# Altium schematic symbol library LCD.SchLib: 5 symbols
Pins are listed as number, name and electrical type; pins without a type are passive.

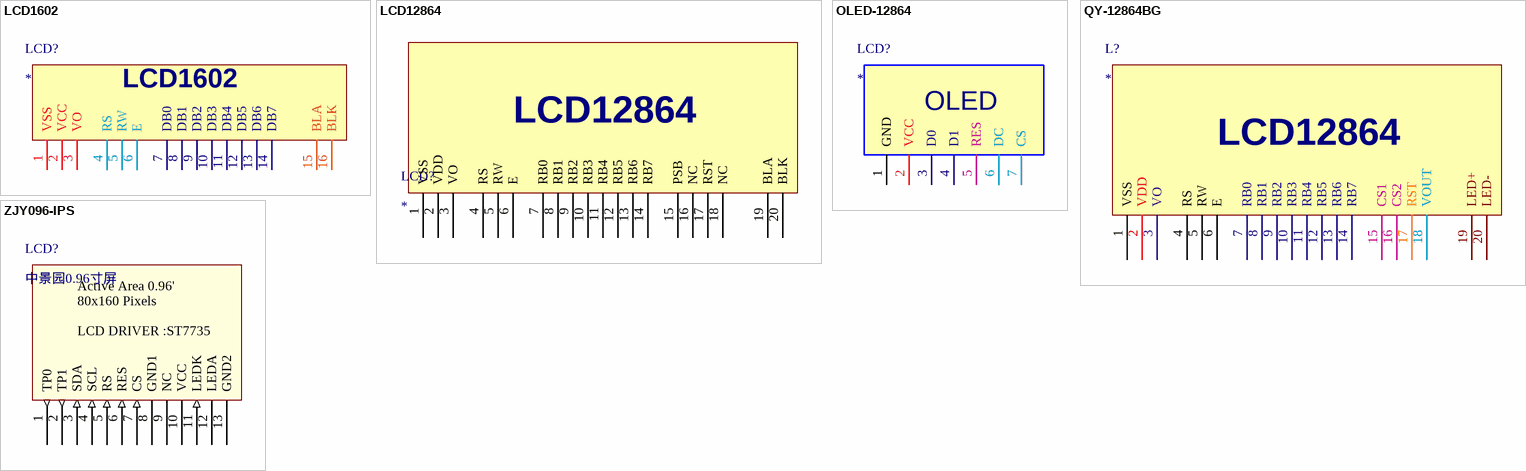
[diagram p0: symbols LCD1602 to ZJY096-IPS]

## LCD1602
designator LCD?
footprint LCD1602
pins: 1 VSS, 2 VCC, 3 VO, 4 RS, 5 RW, 6 E, 7 DB0, 8 DB1, 9 DB2, 10 DB3, 11 DB4, 12 DB5, 13 DB6, 14 DB7, 15 BLA, 16 BLK

## LCD12864
designator LCD?
footprint LCD12864
pins: 1 VSS, 2 VDD, 3 VO, 4 RS, 5 RW, 6 E, 7 RB0, 8 RB1, 9 RB2, 10 RB3, 11 RB4, 12 RB5, 13 RB6, 14 RB7, 15 PSB, 16 NC, 17 RST, 18 NC, 19 BLA, 20 BLK

## OLED-12864
designator LCD?
footprint OLED-12864
pins: 1 GND, 2 VCC, 3 D0, 4 D1, 5 RES, 6 DC, 7 CS
text: OLED

## QY-12864BG
designator L?
footprint QY-12864BG
pins: 1 VSS, 2 VDD, 3 VO, 4 RS, 5 RW, 6 E, 7 RB0, 8 RB1, 9 RB2, 10 RB3, 11 RB4, 12 RB5, 13 RB6, 14 RB7, 15 CS1, 16 CS2, 17 RST, 18 VOUT, 19 LED+, 20 LED-
text: LCD12864

## ZJY096-IPS
designator LCD?, comment 中景园0.96寸屏
TFT LCD MODULE / 0.96 inch 80RGB*160DOTS
footprint ZJY096-IPS-Backside (TFT LCD MODULE   0.96 inch 80RGB*160DOTS   MODULE NUMBER: ZJY096-IPS)
footprint ZJY096-IPS-NonBackside (TFT LCD MODULE   0.96 inch 80RGB*160DOTS   MODULE NUMBER: ZJY096-IPS)
pins: 1 TP0 (out) "Touch Pin,If not used,please open this pin.", 2 TP1 (out) "Touch Pin,If not used,please open this pin.", 3 SDA (in) "SPI interface input/outpur pin.", 4 SCL (in) "This pin is used to be serial interface clock.", 5 RS (in) "Display data/command selection pin in 4-line serial interface.", 6 RES (in) "This signal will reset the device,Signal is active low.", 7 CS (in) "Chip selection pin,Low enable,High disable.", 8 GND1 (power) "Power Ground.", 9 NC "No Connect.", 10 VCC (power) "Power Supply for Analog", 11 LEDK (in) "LED Canthode", 12 LEDA (power) "LED Anode", 13 GND2 (power) "Power Ground."
text: Active Area 0.96'; 80x160 Pixels; LCD DRIVER :ST7735